# Altium schematic symbol library Relay_Sch.SchLib: 2 symbols
Pins are listed as number, name and electrical type; pins without a type are passive.

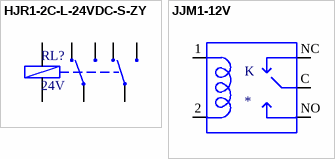
[diagram p0: symbols HJR1-2C-L-24VDC-S-ZY to JJM1-12V]

## HJR1-2C-L-24VDC-S-ZY
designator RL?, comment 24V
24V 2A 2Z contact DPDT Telecom relay; Value: 24V
footprint HJR1-2C-L-24VDC-S-ZY
pins: 1 LEDK, 4 21, 6 19, 8 20, 9 21, 11 20, 13 22, 16 LEDK

## JJM1-12V
designator K
RELAY AUTOMOTIVE SPDT 20A 12V; MF: Panasonic Electric; MP: JJM1-12V; Value: *; SnapEDA_Link: https://www.snapeda.com/parts/JJM1-12V/Panasonic%20Electric%20Works/view-part/586085/?ref=snap; Price: None; Availability: Unavailable; Package: DO-41 Panasonic
footprint RELAY_JJM1-12V
pins: 1 C1, 2 C2, C M, NC, NO